# Altium footprint library QFN32.PcbLib: 1 footprints
Each footprint in its own frame and in the unit in brackets; x right, y up, seen from the top. Pads: shape width x height; smd on the part's side, far side on the other; paste and mask are expansions set on the pad; w line width, h text height; cw(c..) or ccw(c..) is an arc to the next point about the centre after c.
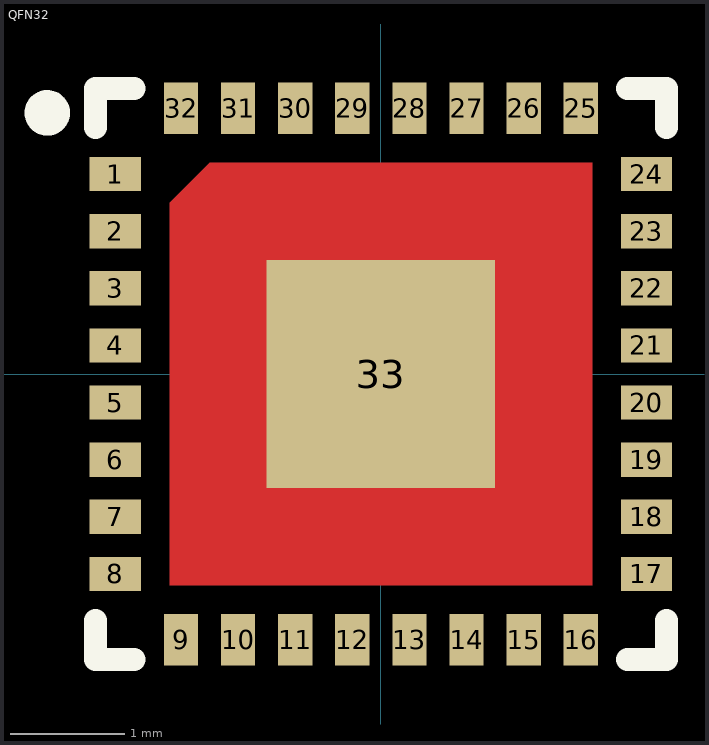
[diagram p0: the footprint, top view; thin cyan lines are the x and y axes]

## QFN32 [mm]
height 0.85
pads (33):
  rect 0.45x0.3 smd: 1(-2.325,1.75) 2(-2.325,1.25) 3(-2.325,0.75) 4(-2.325,0.25) 5(-2.325,-0.25) 6(-2.325,-0.75) 7(-2.325,-1.25) 8(-2.325,-1.75) 17(2.325,-1.75) 18(2.325,-1.25) 19(2.325,-0.75) 20(2.325,-0.25) 21(2.325,0.25) 22(2.325,0.75) 23(2.325,1.25) 24(2.325,1.75)
  rect 0.3x0.45 smd: 9(-1.75,-2.325) 10(-1.25,-2.325) 11(-0.75,-2.325) 12(-0.25,-2.325) 13(0.25,-2.325) 14(0.75,-2.325) 15(1.25,-2.325) 16(1.75,-2.325) 25(1.75,2.325) 26(1.25,2.325) 27(0.75,2.325) 28(0.25,2.325) 29(-0.25,2.325) 30(-0.75,2.325) 31(-1.25,2.325) 32(-1.75,2.325)
  rect 2x2 smd: 33(0,0)
Top Layer:
  region: -1.85,-1.85 1.85,-1.85 1.85,1.85 -1.5,1.85 -1.85,1.5
Top Overlay:
  circle w0.2: c-2.921,2.286 r0.1
  lines w0.2: -2.5,-2.159 -2.5,-2.5 -2.159,-2.5 ; -2.5,2.159 -2.5,2.5 -2.159,2.5 ; 2.159,-2.5 2.5,-2.5 2.5,-2.159 ; 2.159,2.5 2.5,2.5 2.5,2.159
Mechanical 15:
  lines w0.1: -0.381,0 0.381,0 ; 0,-0.381 0,0.381
3D body: height 0.75, standoff 0, extent -2.51,-2.51 2.51,2.51